# Altium footprint library 0805C.PcbLib: 1 footprints
Each footprint in its own frame and in the unit in brackets; x right, y up, seen from the top. Pads: shape width x height; smd on the part's side, far side on the other; paste and mask are expansions set on the pad; w line width, h text height; cw(c..) or ccw(c..) is an arc to the next point about the centre after c.
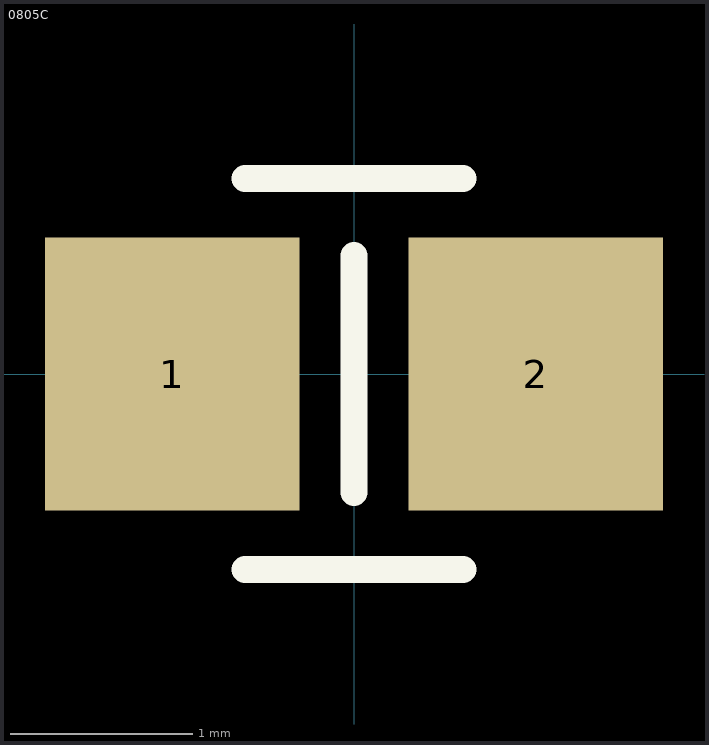
[diagram p0: the footprint, top view; thin cyan lines are the x and y axes]

## 0805C [mm]
pads (2):
  rect 1.4x1.5 smd: 1(-1,0) 2(1,0)
Top Overlay:
  lines w0.15: -0.6,-1.075 0.6,-1.075 ; -0.6,1.075 0.6,1.075 ; 0,-0.65 0,0.65
3D body "CAPC-0805-T1.35-BN.stp": height 1.38, standoff 0.03, extent -1.05,-0.7 1.05,0.65